# Altium schematic symbol library Espressif Microcontrollers.SchLib: 16 symbols
Pins are listed as number, name and electrical type; pins without a type are passive.

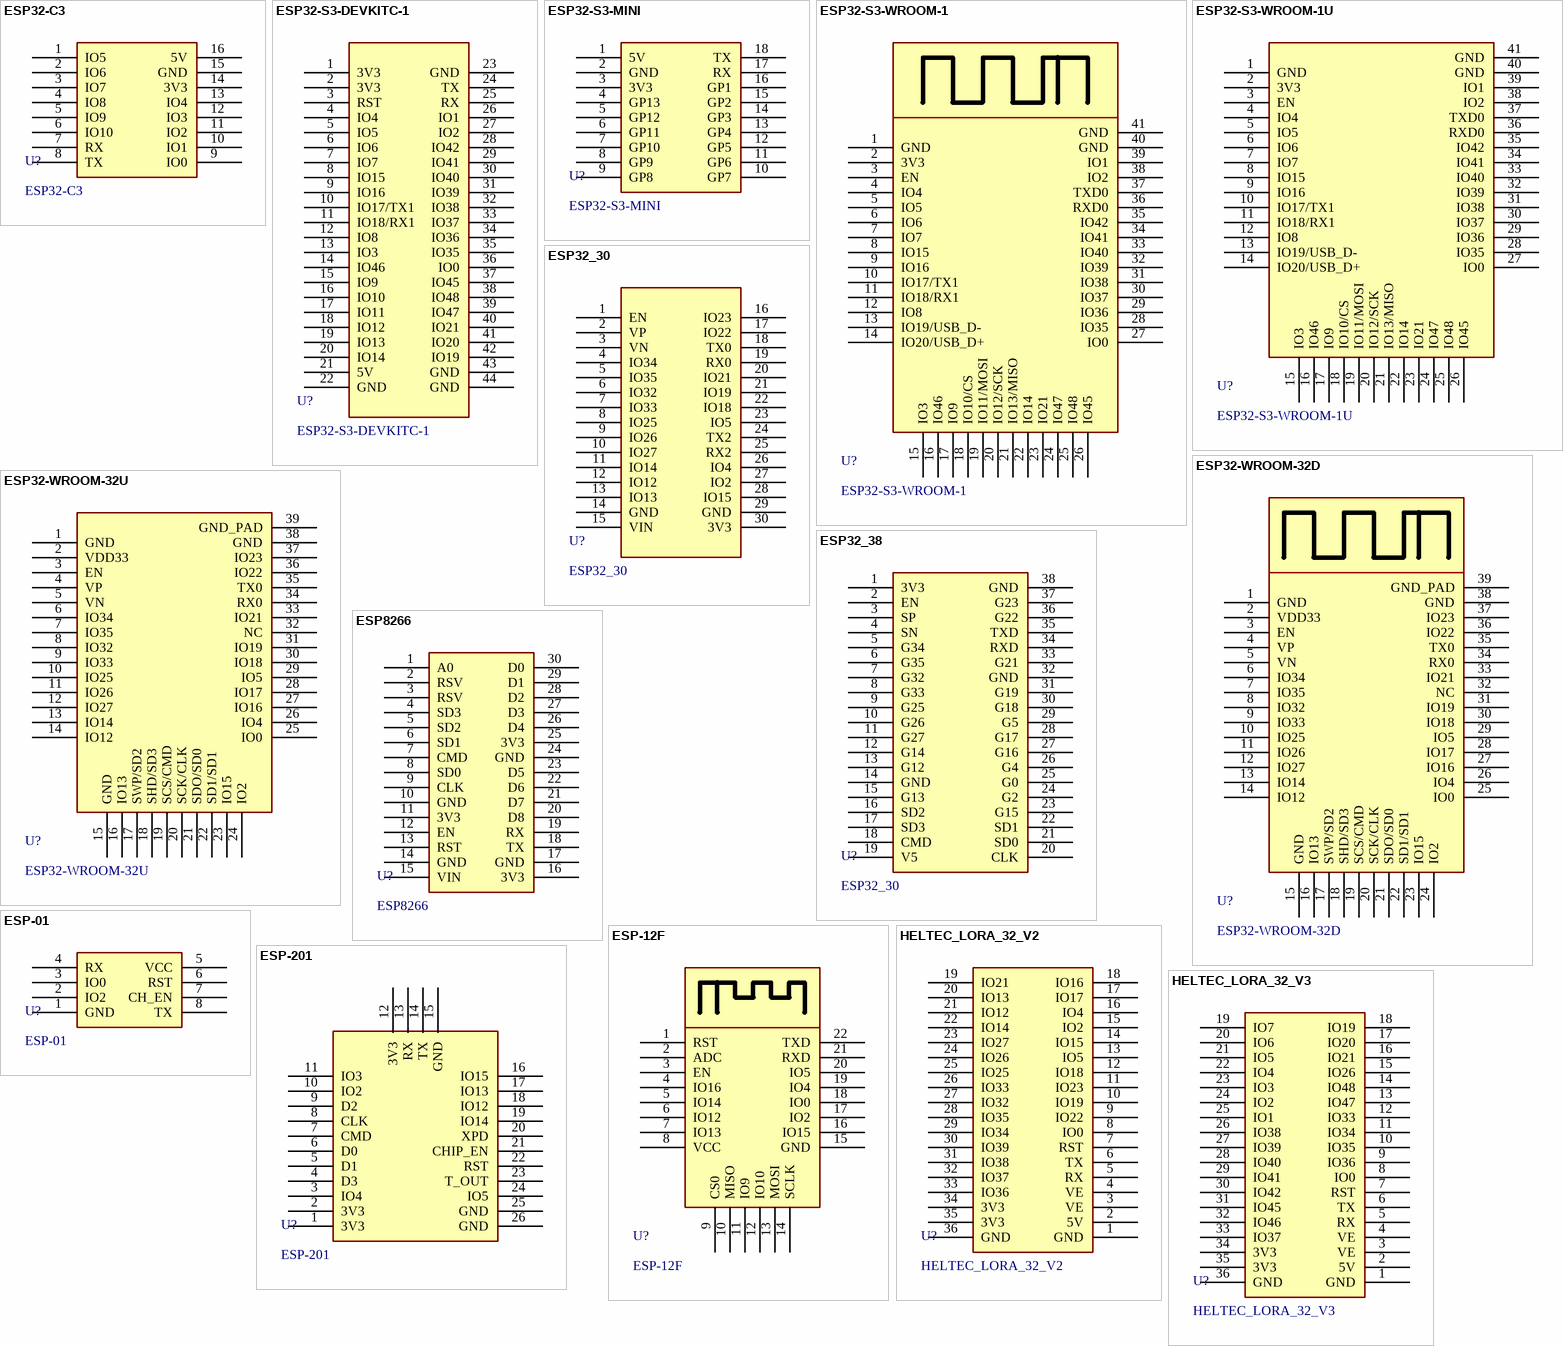
[diagram p0: symbols ESP32-C3 to HELTEC_LORA_32_V3]

## ESP32-C3
designator U?
footprint ESP32-C3
pins: 1 IO5, 2 IO6, 3 IO7, 4 IO8, 5 IO9, 6 IO10, 7 RX, 8 TX, 9 IO0, 10 IO1, 11 IO2, 12 IO3, 13 IO4, 14 3V3, 15 GND, 16 5V

## ESP32-S3-DEVKITC-1
designator U?
footprint ESP32-S3-DEVKITC-1
pins: 1 3V3, 2 3V3, 3 RST, 4 IO4, 5 IO5, 6 IO6, 7 IO7, 8 IO15, 9 IO16, 10 IO17/TX1, 11 IO18/RX1, 12 IO8, 13 IO3, 14 IO46, 15 IO9, 16 IO10, 17 IO11, 18 IO12, 19 IO13, 20 IO14, 21 5V, 22 GND, 23 GND, 24 TX, 25 RX, 26 IO1, 27 IO2, 28 IO42, 29 IO41, 30 IO40, 31 IO39, 32 IO38, 33 IO37, 34 IO36, 35 IO35, 36 IO0, 37 IO45, 38 IO48, 39 IO47, 40 IO21, 41 IO20, 42 IO19, 43 GND, 44 GND

## ESP32-S3-MINI
designator U?
footprint ESP32-S3-MINI
pins: 1 5V, 2 GND, 3 3V3, 4 GP13, 5 GP12, 6 GP11, 7 GP10, 8 GP9, 9 GP8, 10 GP7, 11 GP6, 12 GP5, 13 GP4, 14 GP3, 15 GP2, 16 GP1, 17 RX, 18 TX

## ESP32-S3-WROOM-1
designator U?
footprint ESP32-S3-WROOM-1
pins: 1 GND, 2 3V3, 3 EN, 4 IO4, 5 IO5, 6 IO6, 7 IO7, 8 IO15, 9 IO16, 10 IO17/TX1, 11 IO18/RX1, 12 IO8, 13 IO19/USB_D-, 14 IO20/USB_D+, 15 IO3, 16 IO46, 17 IO9, 18 IO10/CS, 19 IO11/MOSI, 20 IO12/SCK, 21 IO13/MISO, 22 IO14, 23 IO21, 24 IO47, 25 IO48, 26 IO45, 27 IO0, 28 IO35, 29 IO36, 30 IO37, 31 IO38, 32 IO39, 33 IO40, 34 IO41, 35 IO42, 36 RXD0, 37 TXD0, 38 IO2, 39 IO1, 40 GND, 41 GND

## ESP32-S3-WROOM-1U
designator U?
footprint ESP32-S3-WROOM-1U
pins: 1 GND, 2 3V3, 3 EN, 4 IO4, 5 IO5, 6 IO6, 7 IO7, 8 IO15, 9 IO16, 10 IO17/TX1, 11 IO18/RX1, 12 IO8, 13 IO19/USB_D-, 14 IO20/USB_D+, 15 IO3, 16 IO46, 17 IO9, 18 IO10/CS, 19 IO11/MOSI, 20 IO12/SCK, 21 IO13/MISO, 22 IO14, 23 IO21, 24 IO47, 25 IO48, 26 IO45, 27 IO0, 28 IO35, 29 IO36, 30 IO37, 31 IO38, 32 IO39, 33 IO40, 34 IO41, 35 IO42, 36 RXD0, 37 TXD0, 38 IO2, 39 IO1, 40 GND, 41 GND

## ESP32-WROOM-32D
designator U?
Chip SMD 39 Pads Wifi 2.4GHz BLE 4.2 18x25.5mm w/ Antenna.; Mouser PN: ESP32-WROOM-32D-N4; Digikey PN: 1965-ESP32-WROOM-32D-N8CT-ND; ComponentLink1Description: Datasheet; ComponentLink1URL: https://www.mouser.com/datasheet/2/891/esp32_wroom_32d_esp32_wroom_32u_datasheet_en-1365844.pdf; JLCPCB PN: C82899
footprint ESP32-WROOM-32D (Chip SMD 39 Pads 18x25.5mm w/ Antenna.)
pins: 1 GND, 2 VDD33, 3 EN, 4 VP, 5 VN, 6 IO34, 7 IO35, 8 IO32, 9 IO33, 10 IO25, 11 IO26, 12 IO27, 13 IO14, 14 IO12, 15 GND, 16 IO13, 17 SWP/SD2, 18 SHD/SD3, 19 SCS/CMD, 20 SCK/CLK, 21 SDO/SD0, 22 SD1/SD1, 23 IO15, 24 IO2, 25 IO0, 26 IO4, 27 IO16, 28 IO17, 29 IO5, 30 IO18, 31 IO19, 32 NC, 33 IO21, 34 RX0, 35 TX0, 36 IO22, 37 IO23, 38 GND, 39 GND_PAD

## ESP32-WROOM-32U
designator U?
Chip SMD 39 Pads Wifi 2.4GHz BLE 4.2 18x19.2mm w/o Antenna.
footprint ESP32-WROOM-32U (Chip SMD 39 Pads 18x19.2mm w/o Antenna.)
pins: 1 GND, 2 VDD33, 3 EN, 4 VP, 5 VN, 6 IO34, 7 IO35, 8 IO32, 9 IO33, 10 IO25, 11 IO26, 12 IO27, 13 IO14, 14 IO12, 15 GND, 16 IO13, 17 SWP/SD2, 18 SHD/SD3, 19 SCS/CMD, 20 SCK/CLK, 21 SDO/SD0, 22 SD1/SD1, 23 IO15, 24 IO2, 25 IO0, 26 IO4, 27 IO16, 28 IO17, 29 IO5, 30 IO18, 31 IO19, 32 NC, 33 IO21, 34 RX0, 35 TX0, 36 IO22, 37 IO23, 38 GND, 39 GND_PAD

## ESP32_30
designator U?
Microcontoller Board 30 Pins Wifi 2.4GHz BLE 4.2 ESP32-WROOM-32D; ComponentLink1Description: Datasheet; ComponentLink1URL: https://www.mouser.com/datasheet/2/891/esp32_wroom_32d_esp32_wroom_32u_datasheet_en-1365844.pdf
footprint ESP32_30 (Microcontoller Board 30 Pins Wifi 2.4GHz BLE 4.2 ESP32-WROOM-32D)
pins: 1 EN, 2 VP, 3 VN, 4 IO34, 5 IO35, 6 IO32, 7 IO33, 8 IO25, 9 IO26, 10 IO27, 11 IO14, 12 IO12, 13 IO13, 14 GND, 15 VIN, 16 IO23, 17 IO22, 18 TX0, 19 RX0, 20 IO21, 21 IO19, 22 IO18, 23 IO5, 24 TX2, 25 RX2, 26 IO4, 27 IO2, 28 IO15, 29 GND, 30 3V3

## ESP32_38
designator U?, comment ESP32_30
Microcontoller Board 38 Pins Wifi 2.4GHz BLE 4.2 ESP32-WROOM-32D; ComponentLink1Description: Datasheet; ComponentLink1URL: https://www.mouser.com/datasheet/2/891/esp32_wroom_32d_esp32_wroom_32u_datasheet_en-1365844.pdf
footprint ESP32_38 (Microcontoller Board 38 Pins Wifi 2.4GHz BLE 4.2 ESP32-WROOM-32D)
pins: 1 3V3, 2 EN, 3 SP, 4 SN, 5 G34, 6 G35, 7 G32, 8 G33, 9 G25, 10 G26, 11 G27, 12 G14, 13 G12, 14 GND, 15 G13, 16 SD2, 17 SD3, 18 CMD, 19 V5, 20 CLK, 21 SD0, 22 SD1, 23 G15, 24 G2, 25 G0, 26 G4, 27 G16, 28 G17, 29 G5, 30 G18, 31 G19, 32 GND, 33 G21, 34 RXD, 35 TXD, 36 G22, 37 G23, 38 GND

## ESP8266
designator U?
Microcontoller Board 30 Pins Wifi 2.4GHz BLE 4.2 ESP-12F; ComponentLink1Description: Datasheet; ComponentLink1URL: https://docs.ai-thinker.com/_media/esp8266/docs/esp-12f_product_specification_en.pdf
footprint ESP8266 (Microcontoller Board 30 Pins Wifi 2.4GHz BLE 4.2 ESP-12F)
pins: 1 A0, 2 RSV, 3 RSV, 4 SD3, 5 SD2, 6 SD1, 7 CMD, 8 SD0, 9 CLK, 10 GND, 11 3V3, 12 EN, 13 RST, 14 GND, 15 VIN, 16 3V3, 17 GND, 18 TX, 19 RX, 20 D8, 21 D7, 22 D6, 23 D5, 24 GND, 25 3V3, 26 D4, 27 D3, 28 D2, 29 D1, 30 D0

## ESP-01
designator U?
Microcontoller Board 8 Pins Wifi 2.4GHz BLE 4.2 ESP8266EX; ComponentLink1Description: Datasheet; ComponentLink1URL: https://www.espressif.com/sites/default/files/documentation/0a-esp8266ex_datasheet_en.pdf
footprint ESP-01 (Microcontoller Board 8 Pins Wifi 2.4GHz BLE 4.2 ESP8266EX)
pins: 1 GND, 2 IO2, 3 IO0, 4 RX, 5 VCC, 6 RST, 7 CH_EN, 8 TX

## ESP-12F
designator U?
Chip SMD 22 Pads Wifi 2.4GHz BLE 4.2 16x24mm w/ Antenna.; ComponentLink1Description: Datasheet; ComponentLink1URL: https://docs.ai-thinker.com/_media/esp8266/docs/esp-12f_product_specification_en.pdf; JLCPCB PN: C82891
footprint ESP-12F (Chip SMD 22 Pads 16x24mm w/ Antenna.)
pins: 1 RST, 2 ADC, 3 EN, 4 IO16, 5 IO14, 6 IO12, 7 IO13, 8 VCC, 9 CS0, 10 MISO, 11 IO9, 12 IO10, 13 MOSI, 14 SCLK, 15 GND, 16 IO15, 17 IO2, 18 IO0, 19 IO4, 20 IO5, 21 RXD, 22 TXD

## ESP-201
designator U?
footprint ESP-201
pins: 1 3V3, 2 3V3, 3 IO4, 4 D3, 5 D1, 6 D0, 7 CMD, 8 CLK, 9 D2, 10 IO2, 11 IO3, 12 3V3, 13 RX, 14 TX, 15 GND, 16 IO15, 17 IO13, 18 IO12, 19 IO14, 20 XPD, 21 CHIP_EN, 22 RST, 23 T_OUT, 24 IO5, 25 GND, 26 GND

## HELTEC_LORA_32_V2
designator U?
Heltec Lora 32 V2, 36 Pins.
footprint HELTEC_LORA_32_V2_V3 (Heltec Lora 32 36 Pins)
pins: 1 GND, 2 5V, 3 VE, 4 VE, 5 RX, 6 TX, 7 RST, 8 IO0, 9 IO22, 10 IO19, 11 IO23, 12 IO18, 13 IO5, 14 IO15, 15 IO2, 16 IO4, 17 IO17, 18 IO16, 19 IO21, 20 IO13, 21 IO12, 22 IO14, 23 IO27, 24 IO26, 25 IO25, 26 IO33, 27 IO32, 28 IO35, 29 IO34, 30 IO39, 31 IO38, 32 IO37, 33 IO36, 34 3V3, 35 3V3, 36 GND

## HELTEC_LORA_32_V3
designator U?
Heltec Lora 32 V3, 36 Pins.
footprint HELTEC_LORA_32_V2_V3 (Heltec Lora 32 36 Pins)
pins: 1 GND, 2 5V, 3 VE, 4 VE, 5 RX, 6 TX, 7 RST, 8 IO0, 9 IO36, 10 IO35, 11 IO34, 12 IO33, 13 IO47, 14 IO48, 15 IO26, 16 IO21, 17 IO20, 18 IO19, 19 IO7, 20 IO6, 21 IO5, 22 IO4, 23 IO3, 24 IO2, 25 IO1, 26 IO38, 27 IO39, 28 IO40, 29 IO41, 30 IO42, 31 IO45, 32 IO46, 33 IO37, 34 3V3, 35 3V3, 36 GND

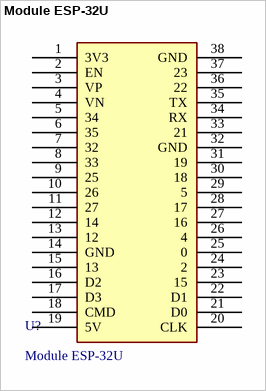
[diagram p1: symbol Module ESP-32U]

## Module ESP-32U
designator U?
footprint Module ESP-32U
pins: 1 3V3, 2 EN, 3 VP, 4 VN, 5 34, 6 35, 7 32, 8 33, 9 25, 10 26, 11 27, 12 14, 13 12, 14 GND, 15 13, 16 D2, 17 D3, 18 CMD, 19 5V, 20 CLK, 21 D0, 22 D1, 23 15, 24 2, 25 0, 26 4, 27 16, 28 17, 29 5, 30 18, 31 19, 32 GND, 33 21, 34 RX, 35 TX, 36 22, 37 23, 38 GND